# Altium footprint library Transistor.PcbLib: 5 footprints
Each footprint in its own frame and in the unit in brackets; x right, y up, seen from the top. Pads: shape width x height; smd on the part's side, far side on the other; paste and mask are expansions set on the pad; w line width, h text height; cw(c..) or ccw(c..) is an arc to the next point about the centre after c.
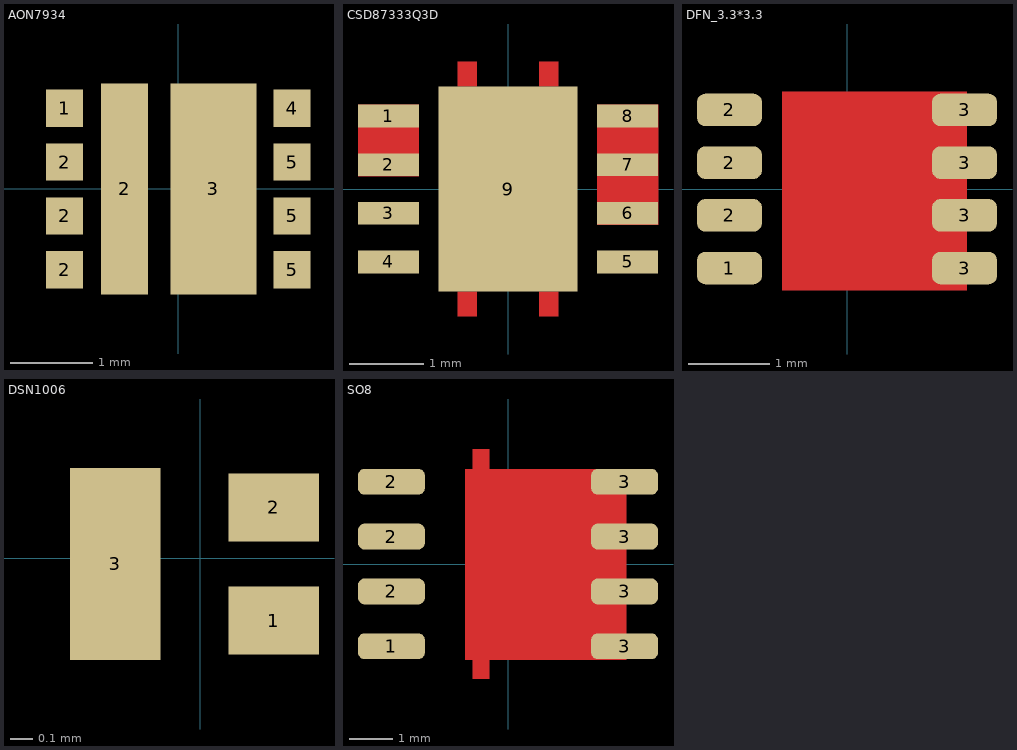
[diagram p0: the footprints below, top view; thin cyan lines are the x and y axes]

## AON7934 [mm]
pads (10):
  rect 0.45x0.45 smd: 1(-1.375,0.975) 2(-1.375,-0.975) 2(-1.375,-0.325) 2(-1.375,0.325) 4(1.375,0.975) 5(1.375,-0.975) 5(1.375,-0.325) 5(1.375,0.325)
  rect 0.566x2.55 smd: 2(-0.65,0)
  rect 1.044x2.55 smd: 3(0.425,0)
3D body "User Library-DFN8_3x3mm__65mm.step": height 0.8, standoff 0, extent -1.51,-1.5 1.51,1.5

## CSD87333Q3D [mil]
pads (9):
  rect 32x12 smd paste+0 mask+0: 1(-63,38.39) 2(-63,12.8) 3(-63,-12.8) 4(-63,-38.39) 5(63,-38.39) 6(63,-12.8) 7(63,12.8) 8(63,38.39)
  rect 73x108 smd paste+0 mask+0: 9(0,0)
Top Layer:
  region: -16.5,54 -26.5,54 -26.5,67 -16.5,67
  region: 16.5,54 26.5,54 26.5,67 16.5,67
  region: -16.5,-54 -26.5,-54 -26.5,-67 -16.5,-67
  region: 16.5,-54 26.5,-54 26.5,-67 16.5,-67
  region: 46.99,44.37 79,44.39 79,-18.8 47,-18.8
  region: -79,44.39 -79,6.76 -47,6.76 -47,44.39
3D body "User Library-DFN 3_3x3_3.STEP": height 29.53, standoff 0, extent -66.33,-64.96 64.37,64.96

## DFN_3.3*3.3 [mm]
pads (8):
  rrect50% 0.8x0.4 smd: 1(-1.45,-0.975) 2(-1.45,-0.325) 2(-1.45,0.325) 2(-1.45,0.975) 3(1.45,-0.975) 3(1.45,-0.325) 3(1.45,0.325) 3(1.45,0.975)
Top Layer:
  region: 1.48,-1.25 1.48,1.2 -0.8,1.2 -0.8,-1.25
Top Paste:
  region: 1.48,-1.25 1.48,1.2 -0.8,1.2 -0.8,-1.25
Top Solder:
  region: 1.48,-1.25 1.48,1.2 -0.8,1.2 -0.8,-1.25
3D body "User Library-DFN 3_3x3_3.STEP": height 0.75, standoff 0, extent -1.66,-1.65 1.66,1.65

## DSN1006 [mm]
pads (3):
  rect 0.4x0.3 smd paste+0 mask+0.055: 1(0.325,-0.275) 2(0.325,0.225)
  rect 0.4x0.85 smd paste+0 mask+0.102: 3(-0.375,-0.025)
3D body: height 0.32, standoff 0, extent -0.525,-0.325 0.475,0.275

## SO8 [mm]
pads (8):
  rrect50% 1.55x0.6 smd: 1(-2.7,-1.905) 2(-2.7,-0.635) 2(-2.7,0.635) 2(-2.7,1.905) 3(2.7,-1.905) 3(2.7,-0.635) 3(2.7,0.635) 3(2.7,1.905)
Top Layer:
  rectangle: -1,-2.22 2.75,2.205
  rectangle: -0.825,-2.665 -0.425,-2.19
  rectangle: -0.825,2.185 -0.425,2.66
Top Paste:
  rectangle: -1,-2.22 2.75,2.205
  rectangle: -0.825,-2.67 -0.425,-2.195
  rectangle: -0.825,2.18 -0.425,2.655
Top Solder:
  rectangle: -0.825,-2.665 -0.425,-2.19
  rectangle: -1,-2.22 2.75,2.205
  rectangle: -0.825,2.185 -0.425,2.66
3D body "User Library-PowerPAK SO-8 (S).STEP": height 1.04, standoff 0, extent -3,-2.57 3.15,2.58